# EAGLE library part GHI-IC_TL1963A (library BeagleBone_Black_Wireless)
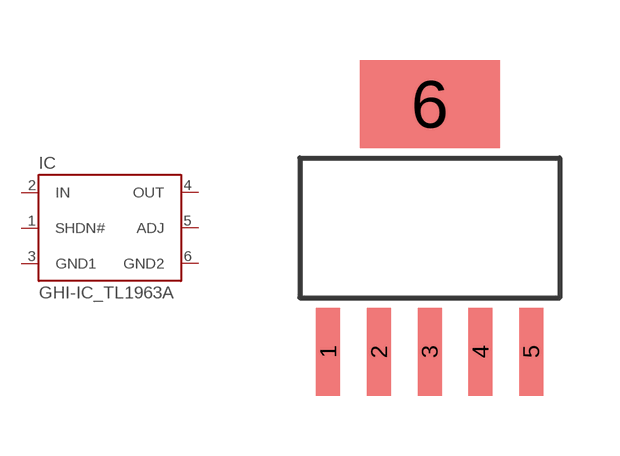
[diagram p16: symbol with the pads of GHI-IC_SOT-223(DCQ_R-PDSO-G6_TI); footprint GHI-IC_SOT-223(DCQ_R-PDSO-G6_TI)]

Designator prefix IC

## GHI-IC_TL1963A  [GHI-IC_SOT-223(DCQ_R-PDSO-G6_TI)]
1  SHDN#
2  IN
3  GND1
4  OUT
5  ADJ
6  GND2

## Footprint GHI-IC_SOT-223(DCQ_R-PDSO-G6_TI) (pad centres in mm)
smd 0.6 x 2.2: 1 -2.54,-3.1; 2 -1.27,-3.1; 3 0,-3.1; 4 1.27,-3.1; 5 2.54,-3.1
smd 3.5 x 2.2: 6 0,3.1